# EAGLE library part IMCV5 (library con-phoenix-381_l)
Invertierter Mini-Combicon 3.81mm vertikal 5-polig IMCV 1,5/5-G-3,81 (ohne Gegenstecker)
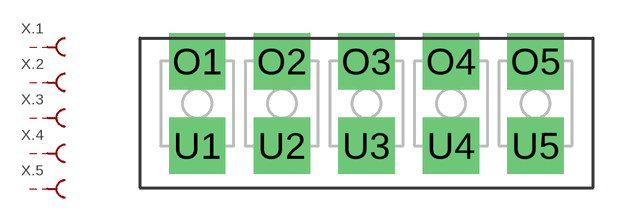
[diagram p34: symbol with the pads of IMCV5; footprint IMCV5]

Designator prefix X; gates .3=MCBU .2=MCBU .1=MCBU .4=MCBU .5=MCBU

## IMCV5  [IMCV5]
O1  .1:S  pas
O2  .2:S  pas
O3  .3:S  pas
O4  .4:S  pas
O5  .5:S  pas
U1  .1:SK  pas
U2  .2:SK  pas
U3  .3:SK  pas
U4  .4:SK  pas
U5  .5:SK  pas

## Footprint IMCV5 (pad centres in mm)
Mini-Combicon 3.81mm vertical 6-polig invertiert (ohne Gegenstecker)
drill 1.3 pad 2.54 square: O1 -7.62,1.905; O2 -3.81,1.905; O3 0,1.905; O4 3.81,1.905; O5 7.62,1.905; U1 -7.62,-1.905; U2 -3.81,-1.905; U3 0,-1.905; U4 3.81,-1.905; U5 7.62,-1.905